# Altium integrated library Capacitor - Aluminium TH.IntLib: 4591 symbols (part 31 of 68)
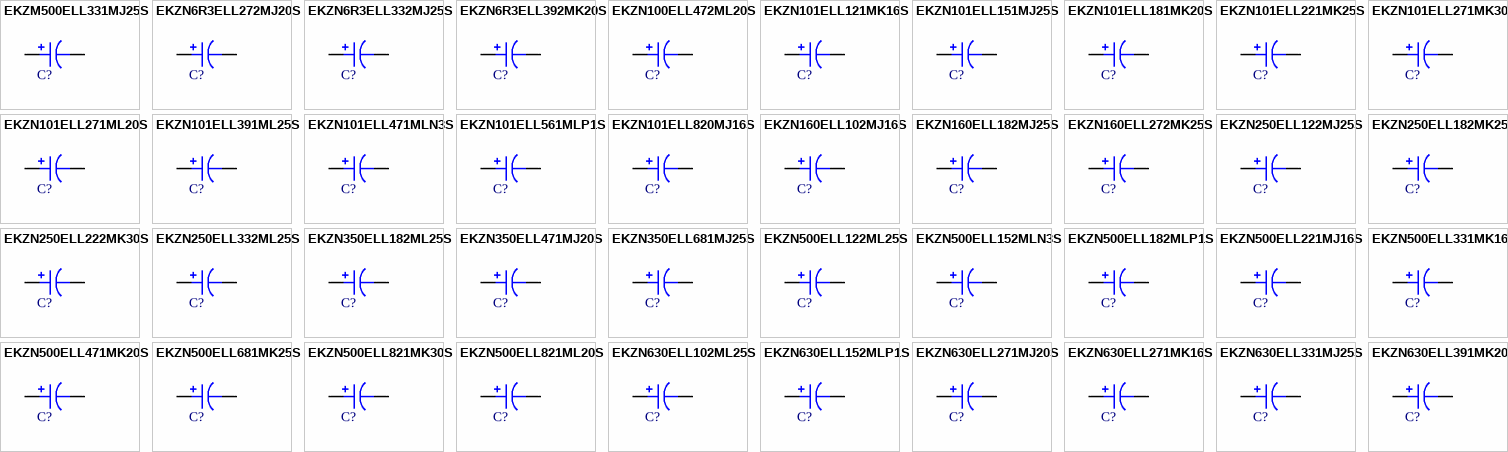
[diagram p144: symbols EKZM500ELL331MJ25S to EKZN630ELL391MK20S]

## EKZN160ELL272MK25S
designator C?, comment 2700uF  (value not drawn)
CAP ALUM 2700UF 20% 16V RADIAL; Part Number: EKZN160ELL272MK25S; Manufacturer: United Chemi-Con; TemperatureRange: -40C ~ 105C; Type: Polar; Ripple Current: 2.4A @ 120Hz; Impedance: 19 mOhm; Value: 2700uF; PartId: 23702; Supplier 1: Digi-Key; Supplier Part Number 1: 565-4049-ND; ComponentLink1Description: Datasheet; ComponentLink1URL: http://www.chemi-con.co.jp/cgi-bin/CAT_DB/SEARCH/cat_db_al.cgi?e=e&j=p&pdfname=kzn; ComponentLink2Description: Digi-Key Listing; ComponentLink2URL: https://www.digikey.com/product-detail/en/united-chemi-con/EKZN160ELL272MK25S/565-4049-ND/4843859; Tolerance: 20%; Voltage: 16V; Price: 1.09; Device Package: Radial, Can, 12.5mm
footprint CAP AL TH D12.5 L5 H26.5
pins: 1, 2

## EKZN250ELL122MJ25S
designator C?, comment 1200uF  (value not drawn)
CAP ALUM 1200UF 20% 25V RADIAL; Part Number: EKZN250ELL122MJ25S; Manufacturer: United Chemi-Con; TemperatureRange: -40C ~ 105C; Type: Polar; Ripple Current: 1.74A @ 120Hz; Impedance: 26 mOhm; Value: 1200uF; PartId: 26185; Supplier 1: Digi-Key; Supplier Part Number 1: 565-4053-ND; ComponentLink1Description: Datasheet; ComponentLink1URL: http://www.chemi-con.co.jp/cgi-bin/CAT_DB/SEARCH/cat_db_al.cgi?e=e&j=p&pdfname=kzn; ComponentLink2Description: Digi-Key Listing; ComponentLink2URL: https://www.digikey.com/product-detail/en/united-chemi-con/EKZN250ELL122MJ25S/565-4053-ND/4843863; Tolerance: 20%; Voltage: 25V; Price: 1.02; Device Package: Radial, Can, 10mm
footprint CAP AL TH D10 L5 H30
pins: 1, 2

## EKZN250ELL182MK25S
designator C?, comment 1800uF  (value not drawn)
CAP ALUM 1800UF 20% 25V RADIAL; Part Number: EKZN250ELL182MK25S; Manufacturer: United Chemi-Con; TemperatureRange: -40C ~ 105C; Type: Polar; Ripple Current: 1.92A @ 120Hz; Impedance: 19 mOhm; Value: 1800uF; PartId: 23719; Supplier 1: Digi-Key; Supplier Part Number 1: 565-4054-ND; ComponentLink1Description: Datasheet; ComponentLink1URL: http://www.chemi-con.co.jp/cgi-bin/CAT_DB/SEARCH/cat_db_al.cgi?e=e&j=p&pdfname=kzn; ComponentLink2Description: Digi-Key Listing; ComponentLink2URL: https://www.digikey.com/product-detail/en/united-chemi-con/EKZN250ELL182MK25S/565-4054-ND/4843864; Tolerance: 20%; Voltage: 25V; Price: 1.23; Device Package: Radial, Can, 12.5mm
footprint CAP AL TH D12.5 L5 H26.5
pins: 1, 2

## EKZN250ELL222MK30S
designator C?, comment 2200uF  (value not drawn)
CAP ALUM 2200UF 20% 25V RADIAL; Part Number: EKZN250ELL222MK30S; Manufacturer: United Chemi-Con; TemperatureRange: -40C ~ 105C; Type: Polar; Ripple Current: 2.745A @ 120Hz; Impedance: 18 mOhm; Value: 2200uF; PartId: 24358; Supplier 1: Digi-Key; Supplier Part Number 1: 565-4055-ND; ComponentLink1Description: Datasheet; ComponentLink1URL: http://www.chemi-con.co.jp/cgi-bin/CAT_DB/SEARCH/cat_db_al.cgi?e=e&j=p&pdfname=kzn; ComponentLink2Description: Digi-Key Listing; ComponentLink2URL: https://www.digikey.com/product-detail/en/united-chemi-con/EKZN250ELL222MK30S/565-4055-ND/4843865; Tolerance: 20%; Voltage: 25V; Price: 1.51; Device Package: Radial, Can, 12.5mm
footprint CAP AL TH D12.5 L5 H35.5
pins: 1, 2

## EKZN250ELL332ML25S
designator C?, comment 3300uF  (value not drawn)
CAP ALUM 3300UF 20% 25V RADIAL; Part Number: EKZN250ELL332ML25S; Manufacturer: United Chemi-Con; TemperatureRange: -40C ~ 105C; Type: Polar; Ripple Current: 2.8575A @ 120Hz; Impedance: 17 mOhm; Value: 3300uF; PartId: 26701; Supplier 1: Digi-Key; Supplier Part Number 1: 565-4056-ND; ComponentLink1Description: Datasheet; ComponentLink1URL: http://www.chemi-con.co.jp/cgi-bin/CAT_DB/SEARCH/cat_db_al.cgi?e=e&j=p&pdfname=kzn; ComponentLink2Description: Digi-Key Listing; ComponentLink2URL: https://www.digikey.com/product-detail/en/united-chemi-con/EKZN250ELL332ML25S/565-4056-ND/4843866; Tolerance: 20%; Voltage: 25V; Price: 1.97; Device Package: Radial, Can, 16mm
footprint CAP AL TH D16 L7.5 H26.5
pins: 1, 2

## EKZN350ELL182ML25S
designator C?, comment 1800uF  (value not drawn)
CAP ALUM 1800UF 20% 35V RADIAL; Part Number: EKZN350ELL182ML25S; Manufacturer: United Chemi-Con; TemperatureRange: -40C ~ 105C; Type: Polar; Ripple Current: 2.286A @ 120Hz; Impedance: 17 mOhm; Value: 1800uF; PartId: 26681; Supplier 1: Digi-Key; Supplier Part Number 1: 565-4062-ND; ComponentLink1Description: Datasheet; ComponentLink1URL: http://www.chemi-con.co.jp/cgi-bin/CAT_DB/SEARCH/cat_db_al.cgi?e=e&j=p&pdfname=kzn; ComponentLink2Description: Digi-Key Listing; ComponentLink2URL: https://www.digikey.com/product-detail/en/united-chemi-con/EKZN350ELL182ML25S/565-4062-ND/4843872; Tolerance: 20%; Voltage: 35V; Price: 1.79; Device Package: Radial, Can, 16mm
footprint CAP AL TH D16 L7.5 H26.5
pins: 1, 2

## EKZN350ELL471MJ20S
designator C?, comment 470uF  (value not drawn)
CAP ALUM 470UF 20% 35V RADIAL; Part Number: EKZN350ELL471MJ20S; Manufacturer: United Chemi-Con; TemperatureRange: -40C ~ 105C; Type: Polar; Ripple Current: 1.25A @ 120Hz; Impedance: 28 mOhm; Value: 470uF; PartId: 25647; Supplier 1: Digi-Key; Supplier Part Number 1: 565-4240-ND; ComponentLink1Description: Datasheet; ComponentLink1URL: http://www.chemi-con.co.jp/cgi-bin/CAT_DB/SEARCH/cat_db_al.cgi?e=e&j=p&pdfname=kzn; ComponentLink2Description: Digi-Key Listing; ComponentLink2URL: https://www.digikey.com/product-detail/en/united-chemi-con/EKZN350ELL471MJ20S/565-4240-ND/4847275; Tolerance: 20%; Voltage: 35V; Price: 0.74; Device Package: Radial, Can, 10mm
footprint CAP AL TH D10 L5 H22
pins: 1, 2

## EKZN350ELL681MJ25S
designator C?, comment 680uF  (value not drawn)
CAP ALUM 680UF 20% 35V RADIAL; Part Number: EKZN350ELL681MJ25S; Manufacturer: United Chemi-Con; TemperatureRange: -40C ~ 105C; Type: Polar; Ripple Current: 1.74A @ 120Hz; Impedance: 26 mOhm; Value: 680uF; PartId: 26111; Supplier 1: Digi-Key; Supplier Part Number 1: 565-4061-ND; ComponentLink1Description: Datasheet; ComponentLink1URL: http://www.chemi-con.co.jp/cgi-bin/CAT_DB/SEARCH/cat_db_al.cgi?e=e&j=p&pdfname=kzn; ComponentLink2Description: Digi-Key Listing; ComponentLink2URL: https://www.digikey.com/product-detail/en/united-chemi-con/EKZN350ELL681MJ25S/565-4061-ND/4843871; Tolerance: 20%; Voltage: 35V; Price: 0.77; Device Package: Radial, Can, 10mm
footprint CAP AL TH D10 L5 H30
pins: 1, 2

## EKZN500ELL122ML25S
designator C?, comment 1200uF  (value not drawn)
CAP ALUM 1200UF 20% 50V RADIAL; Part Number: EKZN500ELL122ML25S; Manufacturer: United Chemi-Con; TemperatureRange: -40C ~ 105C; Type: Polar; Ripple Current: 2.106A @ 120Hz; Impedance: 22 mOhm; Value: 1200uF; PartId: 26680; Supplier 1: Digi-Key; Supplier Part Number 1: 565-4075-ND; ComponentLink1Description: Datasheet; ComponentLink1URL: http://www.chemi-con.co.jp/cgi-bin/CAT_DB/SEARCH/cat_db_al.cgi?e=e&j=p&pdfname=kzn; ComponentLink2Description: Digi-Key Listing; ComponentLink2URL: https://www.digikey.com/product-detail/en/united-chemi-con/EKZN500ELL122ML25S/565-4075-ND/4843885; Tolerance: 20%; Voltage: 50V; Price: 1.79; Device Package: Radial, Can, 16mm
footprint CAP AL TH D16 L7.5 H26.5
pins: 1, 2

## EKZN500ELL152MLN3S
designator C?, comment 1500uF  (value not drawn)
CAP ALUM 1500UF 20% 50V RADIAL; Part Number: EKZN500ELL152MLN3S; Manufacturer: United Chemi-Con; TemperatureRange: -40C ~ 105C; Type: Polar; Ripple Current: 2.418A @ 120Hz; Impedance: 19 mOhm; Value: 1500uF; PartId: 27185; Supplier 1: Digi-Key; Supplier Part Number 1: 565-4076-ND; ComponentLink1Description: Datasheet; ComponentLink1URL: http://www.chemi-con.co.jp/cgi-bin/CAT_DB/SEARCH/cat_db_al.cgi?e=e&j=p&pdfname=kzn; ComponentLink2Description: Digi-Key Listing; ComponentLink2URL: https://www.digikey.com/product-detail/en/united-chemi-con/EKZN500ELL152MLN3S/565-4076-ND/4843886; Tolerance: 20%; Voltage: 50V; Price: 1.97; Device Package: Radial, Can, 16mm
footprint CAP AL TH D16 L7.5 H33.5
pins: 1, 2

## EKZN500ELL182MLP1S
designator C?, comment 1800uF  (value not drawn)
CAP ALUM 1800UF 20% 50V RADIAL; Part Number: EKZN500ELL182MLP1S; Manufacturer: United Chemi-Con; TemperatureRange: -40C ~ 105C; Type: Polar; Ripple Current: 2.532A @ 120Hz; Impedance: 16 mOhm; Value: 1800uF; PartId: 27404; Supplier 1: Digi-Key; Supplier Part Number 1: 565-4077-ND; ComponentLink1Description: Datasheet; ComponentLink1URL: http://www.chemi-con.co.jp/cgi-bin/CAT_DB/SEARCH/cat_db_al.cgi?e=e&j=p&pdfname=kzn; ComponentLink2Description: Digi-Key Listing; ComponentLink2URL: https://www.digikey.com/product-detail/en/united-chemi-con/EKZN500ELL182MLP1S/565-4077-ND/4843887; Tolerance: 20%; Voltage: 50V; Price: 2.21; Device Package: Radial, Can, 16mm
footprint CAP AL TH D16 L7.5 H37
pins: 1, 2

## EKZN500ELL221MJ16S
designator C?, comment 220uF  (value not drawn)
CAP ALUM 220UF 20% 50V RADIAL; Part Number: EKZN500ELL221MJ16S; Manufacturer: United Chemi-Con; TemperatureRange: -40C ~ 105C; Type: Polar; Ripple Current: 825mA @ 120Hz; Impedance: 53 mOhm; Value: 220uF; PartId: 25317; Supplier 1: Digi-Key; Supplier Part Number 1: 565-4067-ND; ComponentLink1Description: Datasheet; ComponentLink1URL: http://www.chemi-con.co.jp/cgi-bin/CAT_DB/SEARCH/cat_db_al.cgi?e=e&j=p&pdfname=kzn; ComponentLink2Description: Digi-Key Listing; ComponentLink2URL: https://www.digikey.com/product-detail/en/united-chemi-con/EKZN500ELL221MJ16S/565-4067-ND/4843877; Tolerance: 20%; Voltage: 50V; Price: 0.65; Device Package: Radial, Can, 10mm
footprint CAP AL TH D10 L5 H17.5
pins: 1, 2

## EKZN500ELL331MK16S
designator C?, comment 330uF  (value not drawn)
CAP ALUM 330UF 20% 50V RADIAL; Part Number: EKZN500ELL331MK16S; Manufacturer: United Chemi-Con; TemperatureRange: -40C ~ 105C; Type: Polar; Ripple Current: 1.08A @ 120Hz; Impedance: 45 mOhm; Value: 330uF; PartId: 22824; Supplier 1: Digi-Key; Supplier Part Number 1: 565-4068-ND; ComponentLink1Description: Datasheet; ComponentLink1URL: http://www.chemi-con.co.jp/cgi-bin/CAT_DB/SEARCH/cat_db_al.cgi?e=e&j=p&pdfname=kzn; ComponentLink2Description: Digi-Key Listing; ComponentLink2URL: https://www.digikey.com/product-detail/en/united-chemi-con/EKZN500ELL331MK16S/565-4068-ND/4843878; Tolerance: 20%; Voltage: 50V; Price: 0; Device Package: Radial, Can, 12.5mm
footprint CAP AL TH D12.5 L5 H17.5
pins: 1, 2

## EKZN500ELL471MK20S
designator C?, comment 470uF  (value not drawn)
CAP ALUM 470UF 20% 50V RADIAL; Part Number: EKZN500ELL471MK20S; Manufacturer: United Chemi-Con; TemperatureRange: -40C ~ 105C; Type: Polar; Ripple Current: 1.15A @ 120Hz; Impedance: 32 mOhm; Value: 470uF; PartId: 23017; Supplier 1: Digi-Key; Supplier Part Number 1: 565-4070-ND; ComponentLink1Description: Datasheet; ComponentLink1URL: http://www.chemi-con.co.jp/cgi-bin/CAT_DB/SEARCH/cat_db_al.cgi?e=e&j=p&pdfname=kzn; ComponentLink2Description: Digi-Key Listing; ComponentLink2URL: https://www.digikey.com/product-detail/en/united-chemi-con/EKZN500ELL471MK20S/565-4070-ND/4843880; Tolerance: 20%; Voltage: 50V; Price: 0; Device Package: Radial, Can, 12.5mm
footprint CAP AL TH D12.5 L5 H21.5
pins: 1, 2

## EKZN500ELL681MK25S
designator C?, comment 680uF  (value not drawn)
CAP ALUM 680UF 20% 50V RADIAL; Part Number: EKZN500ELL681MK25S; Manufacturer: United Chemi-Con; TemperatureRange: -40C ~ 105C; Type: Polar; Ripple Current: 1.68A @ 120Hz; Impedance: 25 mOhm; Value: 680uF; PartId: 23698; Supplier 1: Digi-Key; Supplier Part Number 1: 565-4071-ND; ComponentLink1Description: Datasheet; ComponentLink1URL: http://www.chemi-con.co.jp/cgi-bin/CAT_DB/SEARCH/cat_db_al.cgi?e=e&j=p&pdfname=kzn; ComponentLink2Description: Digi-Key Listing; ComponentLink2URL: https://www.digikey.com/product-detail/en/united-chemi-con/EKZN500ELL681MK25S/565-4071-ND/4843881; Tolerance: 20%; Voltage: 50V; Price: 1.09; Device Package: Radial, Can, 12.5mm
footprint CAP AL TH D12.5 L5 H26.5
pins: 1, 2

## EKZN500ELL821MK30S
designator C?, comment 820uF  (value not drawn)
CAP ALUM 820UF 20% 50V RADIAL; Part Number: EKZN500ELL821MK30S; Manufacturer: United Chemi-Con; TemperatureRange: -40C ~ 105C; Type: Polar; Ripple Current: 2.022A @ 120Hz; Impedance: 23 mOhm; Value: 820uF; PartId: 24310; Supplier 1: Digi-Key; Supplier Part Number 1: 565-4072-ND; ComponentLink1Description: Datasheet; ComponentLink1URL: http://www.chemi-con.co.jp/cgi-bin/CAT_DB/SEARCH/cat_db_al.cgi?e=e&j=p&pdfname=kzn; ComponentLink2Description: Digi-Key Listing; ComponentLink2URL: https://www.digikey.com/product-detail/en/united-chemi-con/EKZN500ELL821MK30S/565-4072-ND/4843882; Tolerance: 20%; Voltage: 50V; Price: 1.23; Device Package: Radial, Can, 12.5mm
footprint CAP AL TH D12.5 L5 H35.5
pins: 1, 2

## EKZN500ELL821ML20S
designator C?, comment 820uF  (value not drawn)
CAP ALUM 820UF 20% 50V RADIAL; Part Number: EKZN500ELL821ML20S; Manufacturer: United Chemi-Con; TemperatureRange: -40C ~ 105C; Type: Polar; Ripple Current: 1.842A @ 120Hz; Impedance: 26 mOhm; Value: 820uF; PartId: 26449; Supplier 1: Digi-Key; Supplier Part Number 1: 565-4073-ND; ComponentLink1Description: Datasheet; ComponentLink1URL: http://www.chemi-con.co.jp/cgi-bin/CAT_DB/SEARCH/cat_db_al.cgi?e=e&j=p&pdfname=kzn; ComponentLink2Description: Digi-Key Listing; ComponentLink2URL: https://www.digikey.com/product-detail/en/united-chemi-con/EKZN500ELL821ML20S/565-4073-ND/4843883; Tolerance: 20%; Voltage: 50V; Price: 1.49; Device Package: Radial, Can, 16mm
footprint CAP AL TH D16 L7.5 H22
pins: 1, 2

## EKZN630ELL102ML25S
designator C?, comment 1000uF  (value not drawn)
CAP ALUM 1000UF 20% 63V RADIAL; Part Number: EKZN630ELL102ML25S; Manufacturer: United Chemi-Con; TemperatureRange: -40C ~ 105C; Type: Polar; Ripple Current: 1.734A @ 120Hz; Impedance: 24 mOhm; Value: 1000uF; PartId: 26678; Supplier 1: Digi-Key; Supplier Part Number 1: 565-4098-ND; ComponentLink1Description: Datasheet; ComponentLink1URL: http://www.chemi-con.co.jp/cgi-bin/CAT_DB/SEARCH/cat_db_al.cgi?e=e&j=p&pdfname=kzn; ComponentLink2Description: Digi-Key Listing; ComponentLink2URL: https://www.digikey.com/product-detail/en/united-chemi-con/EKZN630ELL102ML25S/565-4098-ND/4843908; Tolerance: 20%; Voltage: 63V; Price: 1.79; Device Package: Radial, Can, 16mm
footprint CAP AL TH D16 L7.5 H26.5
pins: 1, 2

## EKZN630ELL152MLP1S
designator C?, comment 1500uF  (value not drawn)
CAP ALUM 1500UF 20% 63V RADIAL; Part Number: EKZN630ELL152MLP1S; Manufacturer: United Chemi-Con; TemperatureRange: -40C ~ 105C; Type: Polar; Ripple Current: 2.064A @ 120Hz; Impedance: 18 mOhm; Value: 1500uF; PartId: 27405; Supplier 1: Digi-Key; Supplier Part Number 1: 565-4101-ND; ComponentLink1Description: Datasheet; ComponentLink1URL: http://www.chemi-con.co.jp/cgi-bin/CAT_DB/SEARCH/cat_db_al.cgi?e=e&j=p&pdfname=kzn; ComponentLink2Description: Digi-Key Listing; ComponentLink2URL: https://www.digikey.com/product-detail/en/united-chemi-con/EKZN630ELL152MLP1S/565-4101-ND/4843911; Tolerance: 20%; Voltage: 63V; Price: 2.21; Device Package: Radial, Can, 16mm
footprint CAP AL TH D16 L7.5 H37
pins: 1, 2

## EKZN630ELL271MJ20S
designator C?, comment 270uF  (value not drawn)
CAP ALUM 270UF 20% 63V RADIAL; Part Number: EKZN630ELL271MJ20S; Manufacturer: United Chemi-Con; TemperatureRange: -40C ~ 105C; Type: Polar; Ripple Current: 785mA @ 120Hz; Impedance: 45 mOhm; Value: 270uF; PartId: 25652; Supplier 1: Digi-Key; Supplier Part Number 1: 565-4089-ND; ComponentLink1Description: Datasheet; ComponentLink1URL: http://www.chemi-con.co.jp/cgi-bin/CAT_DB/SEARCH/cat_db_al.cgi?e=e&j=p&pdfname=kzn; ComponentLink2Description: Digi-Key Listing; ComponentLink2URL: https://www.digikey.com/product-detail/en/united-chemi-con/EKZN630ELL271MJ20S/565-4089-ND/4843899; Tolerance: 20%; Voltage: 63V; Price: 0.74; Device Package: Radial, Can, 10mm
footprint CAP AL TH D10 L5 H22
pins: 1, 2

## EKZN630ELL271MK16S
designator C?, comment 270uF  (value not drawn)
CAP ALUM 270UF 20% 63V RADIAL; Part Number: EKZN630ELL271MK16S; Manufacturer: United Chemi-Con; TemperatureRange: -40C ~ 105C; Type: Polar; Ripple Current: 785mA @ 120Hz; Impedance: 58 mOhm; Value: 270uF; PartId: 22825; Supplier 1: Digi-Key; Supplier Part Number 1: 565-4090-ND; ComponentLink1Description: Datasheet; ComponentLink1URL: http://www.chemi-con.co.jp/cgi-bin/CAT_DB/SEARCH/cat_db_al.cgi?e=e&j=p&pdfname=kzn; ComponentLink2Description: Digi-Key Listing; ComponentLink2URL: https://www.digikey.com/product-detail/en/united-chemi-con/EKZN630ELL271MK16S/565-4090-ND/4843900; Tolerance: 20%; Voltage: 63V; Price: 0; Device Package: Radial, Can, 12.5mm
footprint CAP AL TH D12.5 L5 H17.5
pins: 1, 2

## EKZN630ELL331MJ25S
designator C?, comment 330uF  (value not drawn)
CAP ALUM 330UF 20% 63V RADIAL; Part Number: EKZN630ELL331MJ25S; Manufacturer: United Chemi-Con; TemperatureRange: -40C ~ 105C; Type: Polar; Ripple Current: 995mA @ 120Hz; Impedance: 37 mOhm; Value: 330uF; PartId: 26109; Supplier 1: Digi-Key; Supplier Part Number 1: 565-4091-ND; ComponentLink1Description: Datasheet; ComponentLink1URL: http://www.chemi-con.co.jp/cgi-bin/CAT_DB/SEARCH/cat_db_al.cgi?e=e&j=p&pdfname=kzn; ComponentLink2Description: Digi-Key Listing; ComponentLink2URL: https://www.digikey.com/product-detail/en/united-chemi-con/EKZN630ELL331MJ25S/565-4091-ND/4843901; Tolerance: 20%; Voltage: 63V; Price: 0.77; Device Package: Radial, Can, 10mm
footprint CAP AL TH D10 L5 H30
pins: 1, 2

## EKZN630ELL391MK20S
designator C?, comment 390uF  (value not drawn)
CAP ALUM 390UF 20% 63V RADIAL; Part Number: EKZN630ELL391MK20S; Manufacturer: United Chemi-Con; TemperatureRange: -40C ~ 105C; Type: Polar; Ripple Current: 995mA @ 120Hz; Impedance: 33 mOhm; Value: 390uF; PartId: 23013; Supplier 1: Digi-Key; Supplier Part Number 1: 565-4092-ND; ComponentLink1Description: Datasheet; ComponentLink1URL: http://www.chemi-con.co.jp/cgi-bin/CAT_DB/SEARCH/cat_db_al.cgi?e=e&j=p&pdfname=kzn; ComponentLink2Description: Digi-Key Listing; ComponentLink2URL: https://www.digikey.com/product-detail/en/united-chemi-con/EKZN630ELL391MK20S/565-4092-ND/4843902; Tolerance: 20%; Voltage: 63V; Price: 0; Device Package: Radial, Can, 12.5mm
footprint CAP AL TH D12.5 L5 H21.5
pins: 1, 2

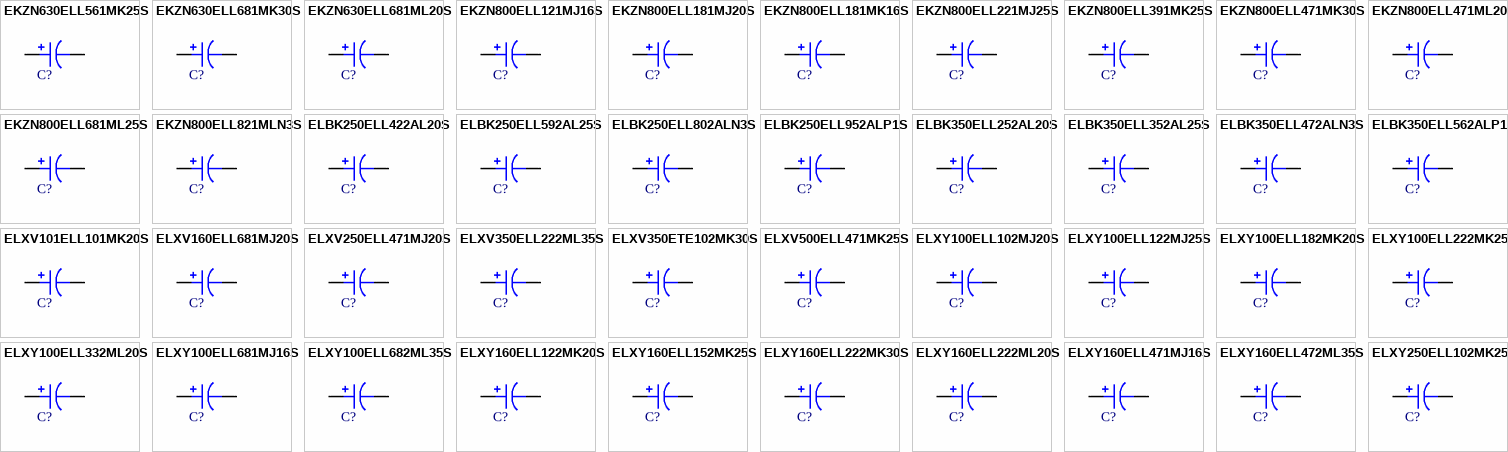
[diagram p50: symbols EKZN630ELL561MK25S to ELXY250ELL102MK25S]

## EKZN630ELL561MK25S
designator C?, comment 560uF  (value not drawn)
CAP ALUM 560UF 20% 63V RADIAL; Part Number: EKZN630ELL561MK25S; Manufacturer: United Chemi-Con; TemperatureRange: -40C ~ 105C; Type: Polar; Ripple Current: 1.23A @ 120Hz; Impedance: 26 mOhm; Value: 560uF; PartId: 23693; Supplier 1: Digi-Key; Supplier Part Number 1: 565-4093-ND; ComponentLink1Description: Datasheet; ComponentLink1URL: http://www.chemi-con.co.jp/cgi-bin/CAT_DB/SEARCH/cat_db_al.cgi?e=e&j=p&pdfname=kzn; ComponentLink2Description: Digi-Key Listing; ComponentLink2URL: https://www.digikey.com/product-detail/en/united-chemi-con/EKZN630ELL561MK25S/565-4093-ND/4843903; Tolerance: 20%; Voltage: 63V; Price: 1.06; Device Package: Radial, Can, 12.5mm
footprint CAP AL TH D12.5 L5 H26.5
pins: 1, 2

## EKZN630ELL681MK30S
designator C?, comment 680uF  (value not drawn)
CAP ALUM 680UF 20% 63V RADIAL; Part Number: EKZN630ELL681MK30S; Manufacturer: United Chemi-Con; TemperatureRange: -40C ~ 105C; Type: Polar; Ripple Current: 1.656A @ 120Hz; Impedance: 24 mOhm; Value: 680uF; PartId: 24307; Supplier 1: Digi-Key; Supplier Part Number 1: 565-4094-ND; ComponentLink1Description: Datasheet; ComponentLink1URL: http://www.chemi-con.co.jp/cgi-bin/CAT_DB/SEARCH/cat_db_al.cgi?e=e&j=p&pdfname=kzn; ComponentLink2Description: Digi-Key Listing; ComponentLink2URL: https://www.digikey.com/product-detail/en/united-chemi-con/EKZN630ELL681MK30S/565-4094-ND/4843904; Tolerance: 20%; Voltage: 63V; Price: 1.23; Device Package: Radial, Can, 12.5mm
footprint CAP AL TH D12.5 L5 H35.5
pins: 1, 2

## EKZN630ELL681ML20S
designator C?, comment 680uF  (value not drawn)
CAP ALUM 680UF 20% 63V RADIAL; Part Number: EKZN630ELL681ML20S; Manufacturer: United Chemi-Con; TemperatureRange: -40C ~ 105C; Type: Polar; Ripple Current: 1.428A @ 120Hz; Impedance: 27 mOhm; Value: 680uF; PartId: 26450; Supplier 1: Digi-Key; Supplier Part Number 1: 565-4095-ND; ComponentLink1Description: Datasheet; ComponentLink1URL: http://www.chemi-con.co.jp/cgi-bin/CAT_DB/SEARCH/cat_db_al.cgi?e=e&j=p&pdfname=kzn; ComponentLink2Description: Digi-Key Listing; ComponentLink2URL: https://www.digikey.com/product-detail/en/united-chemi-con/EKZN630ELL681ML20S/565-4095-ND/4843905; Tolerance: 20%; Voltage: 63V; Price: 1.49; Device Package: Radial, Can, 16mm
footprint CAP AL TH D16 L7.5 H22
pins: 1, 2

## EKZN800ELL121MJ16S
designator C?, comment 120uF  (value not drawn)
CAP ALUM 120UF 20% 80V RADIAL; Part Number: EKZN800ELL121MJ16S; Manufacturer: United Chemi-Con; TemperatureRange: -40C ~ 105C; Type: Polar; Ripple Current: 416mA @ 120Hz; Impedance: 90 mOhm; Value: 120uF; PartId: 25310; Supplier 1: Digi-Key; Supplier Part Number 1: 565-4112-ND; ComponentLink1Description: Datasheet; ComponentLink1URL: http://www.chemi-con.co.jp/cgi-bin/CAT_DB/SEARCH/cat_db_al.cgi?e=e&j=p&pdfname=kzn; ComponentLink2Description: Digi-Key Listing; ComponentLink2URL: https://www.digikey.com/product-detail/en/united-chemi-con/EKZN800ELL121MJ16S/565-4112-ND/4843922; Tolerance: 20%; Voltage: 80V; Price: 0.65; Device Package: Radial, Can, 10mm
footprint CAP AL TH D10 L5 H17.5
pins: 1, 2

## EKZN800ELL181MJ20S
designator C?, comment 180uF  (value not drawn)
CAP ALUM 180UF 20% 80V RADIAL; Part Number: EKZN800ELL181MJ20S; Manufacturer: United Chemi-Con; TemperatureRange: -40C ~ 105C; Type: Polar; Ripple Current: 572mA @ 120Hz; Impedance: 68 mOhm; Value: 180uF; PartId: 25654; Supplier 1: Digi-Key; Supplier Part Number 1: 565-4113-ND; ComponentLink1Description: Datasheet; ComponentLink1URL: http://www.chemi-con.co.jp/cgi-bin/CAT_DB/SEARCH/cat_db_al.cgi?e=e&j=p&pdfname=kzn; ComponentLink2Description: Digi-Key Listing; ComponentLink2URL: https://www.digikey.com/product-detail/en/united-chemi-con/EKZN800ELL181MJ20S/565-4113-ND/4843923; Tolerance: 20%; Voltage: 80V; Price: 0.74; Device Package: Radial, Can, 10mm
footprint CAP AL TH D10 L5 H22
pins: 1, 2

## EKZN800ELL181MK16S
designator C?, comment 180uF  (value not drawn)
CAP ALUM 180UF 20% 80V RADIAL; Part Number: EKZN800ELL181MK16S; Manufacturer: United Chemi-Con; TemperatureRange: -40C ~ 105C; Type: Polar; Ripple Current: 572mA @ 120Hz; Impedance: 90 mOhm; Value: 180uF; PartId: 22827; Supplier 1: Digi-Key; Supplier Part Number 1: 565-4114-ND; ComponentLink1Description: Datasheet; ComponentLink1URL: http://www.chemi-con.co.jp/cgi-bin/CAT_DB/SEARCH/cat_db_al.cgi?e=e&j=p&pdfname=kzn; ComponentLink2Description: Digi-Key Listing; ComponentLink2URL: https://www.digikey.com/product-detail/en/united-chemi-con/EKZN800ELL181MK16S/565-4114-ND/4843924; Tolerance: 20%; Voltage: 80V; Price: 0; Device Package: Radial, Can, 12.5mm
footprint CAP AL TH D12.5 L5 H17.5
pins: 1, 2

## EKZN800ELL221MJ25S
designator C?, comment 220uF  (value not drawn)
CAP ALUM 220UF 20% 80V RADIAL; Part Number: EKZN800ELL221MJ25S; Manufacturer: United Chemi-Con; TemperatureRange: -40C ~ 105C; Type: Polar; Ripple Current: 810mA @ 120Hz; Impedance: 55 mOhm; Value: 220uF; PartId: 26116; Supplier 1: Digi-Key; Supplier Part Number 1: 565-4115-ND; ComponentLink1Description: Datasheet; ComponentLink1URL: http://www.chemi-con.co.jp/cgi-bin/CAT_DB/SEARCH/cat_db_al.cgi?e=e&j=p&pdfname=kzn; ComponentLink2Description: Digi-Key Listing; ComponentLink2URL: https://www.digikey.com/product-detail/en/united-chemi-con/EKZN800ELL221MJ25S/565-4115-ND/4843925; Tolerance: 20%; Voltage: 80V; Price: 0.77; Device Package: Radial, Can, 10mm
footprint CAP AL TH D10 L5 H30
pins: 1, 2

## EKZN800ELL391MK25S
designator C?, comment 390uF  (value not drawn)
CAP ALUM 390UF 20% 80V RADIAL; Part Number: EKZN800ELL391MK25S; Manufacturer: United Chemi-Con; TemperatureRange: -40C ~ 105C; Type: Polar; Ripple Current: 1.105A @ 120Hz; Impedance: 38 mOhm; Value: 390uF; PartId: 23697; Supplier 1: Digi-Key; Supplier Part Number 1: 565-4117-ND; ComponentLink1Description: Datasheet; ComponentLink1URL: http://www.chemi-con.co.jp/cgi-bin/CAT_DB/SEARCH/cat_db_al.cgi?e=e&j=p&pdfname=kzn; ComponentLink2Description: Digi-Key Listing; ComponentLink2URL: https://www.digikey.com/product-detail/en/united-chemi-con/EKZN800ELL391MK25S/565-4117-ND/4843927; Tolerance: 20%; Voltage: 80V; Price: 1.09; Device Package: Radial, Can, 12.5mm
footprint CAP AL TH D12.5 L5 H26.5
pins: 1, 2

## EKZN800ELL471MK30S
designator C?, comment 470uF  (value not drawn)
CAP ALUM 470UF 20% 80V RADIAL; Part Number: EKZN800ELL471MK30S; Manufacturer: United Chemi-Con; TemperatureRange: -40C ~ 105C; Type: Polar; Ripple Current: 1.2A @ 120Hz; Impedance: 33 mOhm; Value: 470uF; PartId: 24308; Supplier 1: Digi-Key; Supplier Part Number 1: 565-4118-ND; ComponentLink1Description: Datasheet; ComponentLink1URL: http://www.chemi-con.co.jp/cgi-bin/CAT_DB/SEARCH/cat_db_al.cgi?e=e&j=p&pdfname=kzn; ComponentLink2Description: Digi-Key Listing; ComponentLink2URL: https://www.digikey.com/product-detail/en/united-chemi-con/EKZN800ELL471MK30S/565-4118-ND/4843928; Tolerance: 20%; Voltage: 80V; Price: 1.23; Device Package: Radial, Can, 12.5mm
footprint CAP AL TH D12.5 L5 H35.5
pins: 1, 2

## EKZN800ELL471ML20S
designator C?, comment 470uF  (value not drawn)
CAP ALUM 470UF 20% 80V RADIAL; Part Number: EKZN800ELL471ML20S; Manufacturer: United Chemi-Con; TemperatureRange: -40C ~ 105C; Type: Polar; Ripple Current: 975mA @ 120Hz; Impedance: 36 mOhm; Value: 470uF; PartId: 26454; Supplier 1: Digi-Key; Supplier Part Number 1: 565-4119-ND; ComponentLink1Description: Datasheet; ComponentLink1URL: http://www.chemi-con.co.jp/cgi-bin/CAT_DB/SEARCH/cat_db_al.cgi?e=e&j=p&pdfname=kzn; ComponentLink2Description: Digi-Key Listing; ComponentLink2URL: https://www.digikey.com/product-detail/en/united-chemi-con/EKZN800ELL471ML20S/565-4119-ND/4843929; Tolerance: 20%; Voltage: 80V; Price: 1.51; Device Package: Radial, Can, 16mm
footprint CAP AL TH D16 L7.5 H22
pins: 1, 2

## EKZN800ELL681ML25S
designator C?, comment 680uF  (value not drawn)
CAP ALUM 680UF 20% 80V RADIAL; Part Number: EKZN800ELL681ML25S; Manufacturer: United Chemi-Con; TemperatureRange: -40C ~ 105C; Type: Polar; Ripple Current: 1.458A @ 120Hz; Impedance: 28 mOhm; Value: 680uF; PartId: 26679; Supplier 1: Digi-Key; Supplier Part Number 1: 565-4121-ND; ComponentLink1Description: Datasheet; ComponentLink1URL: http://www.chemi-con.co.jp/cgi-bin/CAT_DB/SEARCH/cat_db_al.cgi?e=e&j=p&pdfname=kzn; ComponentLink2Description: Digi-Key Listing; ComponentLink2URL: https://www.digikey.com/product-detail/en/united-chemi-con/EKZN800ELL681ML25S/565-4121-ND/4843931; Tolerance: 20%; Voltage: 80V; Price: 1.79; Device Package: Radial, Can, 16mm
footprint CAP AL TH D16 L7.5 H26.5
pins: 1, 2

## EKZN800ELL821MLN3S
designator C?, comment 820uF  (value not drawn)
CAP ALUM 820UF 20% 80V RADIAL; Part Number: EKZN800ELL821MLN3S; Manufacturer: United Chemi-Con; TemperatureRange: -40C ~ 105C; Type: Polar; Ripple Current: 1.584A @ 120Hz; Impedance: 22 mOhm; Value: 820uF; PartId: 27183; Supplier 1: Digi-Key; Supplier Part Number 1: 565-4123-ND; ComponentLink1Description: Datasheet; ComponentLink1URL: http://www.chemi-con.co.jp/cgi-bin/CAT_DB/SEARCH/cat_db_al.cgi?e=e&j=p&pdfname=kzn; ComponentLink2Description: Digi-Key Listing; ComponentLink2URL: https://www.digikey.com/product-detail/en/united-chemi-con/EKZN800ELL821MLN3S/565-4123-ND/4843933; Tolerance: 20%; Voltage: 80V; Price: 1.97; Device Package: Radial, Can, 16mm
footprint CAP AL TH D16 L7.5 H33.5
pins: 1, 2

## ELBK250ELL422AL20S
designator C?, comment 4200uF  (value not drawn)
CAP POLY 4200UF 25V T/H; Part Number: ELBK250ELL422AL20S; Manufacturer: United Chemi-Con; TemperatureRange: -55C ~ 105C; Tolerance: 0%, +30%; Type: Polar; Ripple Current: 1.9125A @ 120Hz; Value: 4200uF; PartId: 26508; Supplier 1: Digi-Key; Supplier Part Number 1: 565-4337-ND; ComponentLink1Description: Datasheet; ComponentLink1URL: http://www.chemi-con.co.jp/cgi-bin/CAT_DB/SEARCH/cat_db_al.cgi?e=e&j=p&pdfname=lbk; ComponentLink2Description: Digi-Key Listing; ComponentLink2URL: https://www.digikey.com/product-detail/en/united-chemi-con/ELBK250ELL422AL20S/565-4337-ND/5824540; Voltage: 25V; Price: 2.84; Device Package: Radial, Can, 16mm
footprint CAP AL TH D16 L7.5 H22
pins: 1, 2

## ELBK250ELL592AL25S
designator C?, comment 5900uF  (value not drawn)
CAP POLY 5900UF 25V T/H; Part Number: ELBK250ELL592AL25S; Manufacturer: United Chemi-Con; TemperatureRange: -55C ~ 105C; Tolerance: 0%, +30%; Type: Polar; Ripple Current: 2.21A @ 120Hz; Value: 5900uF; PartId: 26976; Supplier 1: Digi-Key; Supplier Part Number 1: 565-4339-ND; ComponentLink1Description: Datasheet; ComponentLink1URL: http://www.chemi-con.co.jp/cgi-bin/CAT_DB/SEARCH/cat_db_al.cgi?e=e&j=p&pdfname=lbk; ComponentLink2Description: Digi-Key Listing; ComponentLink2URL: https://www.digikey.com/product-detail/en/united-chemi-con/ELBK250ELL592AL25S/565-4339-ND/5824542; Voltage: 25V; Price: 3.16; Device Package: Radial, Can, 16mm
footprint CAP AL TH D16 L7.5 H27
pins: 1, 2

## ELBK250ELL802ALN3S
designator C?, comment 8000uF  (value not drawn)
CAP POLY 8000UF 25V T/H; Part Number: ELBK250ELL802ALN3S; Manufacturer: United Chemi-Con; TemperatureRange: -55C ~ 105C; Tolerance: 0%, +30%; Type: Polar; Ripple Current: 2.72A @ 120Hz; Value: 8000uF; PartId: 27303; Supplier 1: Digi-Key; Supplier Part Number 1: 565-4341-ND; ComponentLink1Description: Datasheet; ComponentLink1URL: http://www.chemi-con.co.jp/cgi-bin/CAT_DB/SEARCH/cat_db_al.cgi?e=e&j=p&pdfname=lbk; ComponentLink2Description: Digi-Key Listing; ComponentLink2URL: https://www.digikey.com/product-detail/en/united-chemi-con/ELBK250ELL802ALN3S/565-4341-ND/5824544; Voltage: 25V; Price: 3.88; Device Package: Radial, Can, 16mm
footprint CAP AL TH D16 L7.5 H33.5
pins: 1, 2

## ELBK250ELL952ALP1S
designator C?, comment 9500uF  (value not drawn)
CAP POLY 9500UF 25V T/H; Part Number: ELBK250ELL952ALP1S; Manufacturer: United Chemi-Con; TemperatureRange: -55C ~ 105C; Tolerance: 0%, +30%; Type: Polar; Ripple Current: 2.975A @ 120Hz; Value: 9500uF; PartId: 27449; Supplier 1: Digi-Key; Supplier Part Number 1: 565-4342-ND; ComponentLink1Description: Datasheet; ComponentLink1URL: http://www.chemi-con.co.jp/cgi-bin/CAT_DB/SEARCH/cat_db_al.cgi?e=e&j=p&pdfname=lbk; ComponentLink2Description: Digi-Key Listing; ComponentLink2URL: https://www.digikey.com/product-detail/en/united-chemi-con/ELBK250ELL952ALP1S/565-4342-ND/5824545; Voltage: 25V; Price: 4.43; Device Package: Radial, Can, 16mm
footprint CAP AL TH D16 L7.5 H37
pins: 1, 2

## ELBK350ELL252AL20S
designator C?, comment 2500uF  (value not drawn)
CAP POLY 2500UF 35V T/H; Part Number: ELBK350ELL252AL20S; Manufacturer: United Chemi-Con; TemperatureRange: -55C ~ 105C; Tolerance: 0%, +30%; Type: Polar; Ripple Current: 1.6875A @ 120Hz; Value: 2500uF; PartId: 26509; Supplier 1: Digi-Key; Supplier Part Number 1: 565-4347-ND; ComponentLink1Description: Datasheet; ComponentLink1URL: http://www.chemi-con.co.jp/cgi-bin/CAT_DB/SEARCH/cat_db_al.cgi?e=e&j=p&pdfname=lbk; ComponentLink2Description: Digi-Key Listing; ComponentLink2URL: https://www.digikey.com/product-detail/en/united-chemi-con/ELBK350ELL252AL20S/565-4347-ND/5824550; Voltage: 35V; Price: 2.85; Device Package: Radial, Can, 16mm
footprint CAP AL TH D16 L7.5 H22
pins: 1, 2

## ELBK350ELL352AL25S
designator C?, comment 3500uF  (value not drawn)
CAP POLY 3500UF 35V T/H; Part Number: ELBK350ELL352AL25S; Manufacturer: United Chemi-Con; TemperatureRange: -55C ~ 105C; Tolerance: 0%, +30%; Type: Polar; Ripple Current: 1.95A @ 120Hz; Value: 3500uF; PartId: 26731; Supplier 1: Digi-Key; Supplier Part Number 1: 565-4349-ND; ComponentLink1Description: Datasheet; ComponentLink1URL: http://www.chemi-con.co.jp/cgi-bin/CAT_DB/SEARCH/cat_db_al.cgi?e=e&j=p&pdfname=lbk; ComponentLink2Description: Digi-Key Listing; ComponentLink2URL: https://www.digikey.com/product-detail/en/united-chemi-con/ELBK350ELL352AL25S/565-4349-ND/5824552; Voltage: 35V; Price: 3.22; Device Package: Radial, Can, 16mm
footprint CAP AL TH D16 L7.5 H26.5
pins: 1, 2

## ELBK350ELL472ALN3S
designator C?, comment 4700uF  (value not drawn)
CAP POLY 4700UF 35V T/H; Part Number: ELBK350ELL472ALN3S; Manufacturer: United Chemi-Con; TemperatureRange: -55C ~ 105C; Tolerance: 0%, +30%; Type: Polar; Ripple Current: 2.72A @ 120Hz; Value: 4700uF; PartId: 27306; Supplier 1: Digi-Key; Supplier Part Number 1: 565-4351-ND; ComponentLink1Description: Datasheet; ComponentLink1URL: http://www.chemi-con.co.jp/cgi-bin/CAT_DB/SEARCH/cat_db_al.cgi?e=e&j=p&pdfname=lbk; ComponentLink2Description: Digi-Key Listing; ComponentLink2URL: https://www.digikey.com/product-detail/en/united-chemi-con/ELBK350ELL472ALN3S/565-4351-ND/5824554; Voltage: 35V; Price: 3.97; Device Package: Radial, Can, 16mm
footprint CAP AL TH D16 L7.5 H33.5
pins: 1, 2

## ELBK350ELL562ALP1S
designator C?, comment 5600uF  (value not drawn)
CAP POLY 5600UF 35V T/H; Part Number: ELBK350ELL562ALP1S; Manufacturer: United Chemi-Con; TemperatureRange: -55C ~ 105C; Tolerance: 0%, +30%; Type: Polar; Ripple Current: 2.975A @ 120Hz; Value: 5600uF; PartId: 27451; Supplier 1: Digi-Key; Supplier Part Number 1: 565-4352-ND; ComponentLink1Description: Datasheet; ComponentLink1URL: http://www.chemi-con.co.jp/cgi-bin/CAT_DB/SEARCH/cat_db_al.cgi?e=e&j=p&pdfname=lbk; ComponentLink2Description: Digi-Key Listing; ComponentLink2URL: https://www.digikey.com/product-detail/en/united-chemi-con/ELBK350ELL562ALP1S/565-4352-ND/5824555; Voltage: 35V; Price: 4.46; Device Package: Radial, Can, 16mm
footprint CAP AL TH D16 L7.5 H37
pins: 1, 2

## ELXV101ELL101MK20S
designator C?, comment 100uF  (value not drawn)
CAP ALUM 100UF 20% 100V RADIAL; Part Number: ELXV101ELL101MK20S; Manufacturer: United Chemi-Con; TemperatureRange: -55C ~ 105C; Type: Polar; Ripple Current: 311.5mA @ 120Hz; Impedance: 150 mOhm; Value: 100uF; PartId: 22959; Supplier 1: Digi-Key; Supplier Part Number 1: 565-4244-ND; ComponentLink1Description: Datasheet; ComponentLink1URL: http://www.chemi-con.co.jp/cgi-bin/CAT_DB/SEARCH/cat_db_al.cgi?e=e&j=p&pdfname=lxv; ComponentLink2Description: Digi-Key Listing; ComponentLink2URL: https://www.digikey.com/product-detail/en/united-chemi-con/ELXV101ELL101MK20S/565-4244-ND/4001739; Tolerance: 20%; Voltage: 100V; Price: 0; Device Package: Radial, Can, 12.5mm
footprint CAP AL TH D12.5 L5 H21.5
pins: 1, 2

## ELXV160ELL681MJ20S
designator C?, comment 680uF  (value not drawn)
CAP ALUM 680UF 20% 16V RADIAL; Part Number: ELXV160ELL681MJ20S; Manufacturer: United Chemi-Con; TemperatureRange: -55C ~ 105C; Type: Polar; Ripple Current: 689mA @ 120Hz; Impedance: 62 mOhm; Value: 680uF; PartId: 25532; Supplier 1: Digi-Key; Supplier Part Number 1: 565-3357-ND; ComponentLink1Description: Datasheet; ComponentLink1URL: http://www.chemi-con.co.jp/cgi-bin/CAT_DB/SEARCH/cat_db_al.cgi?e=e&j=p&pdfname=lxv; ComponentLink2Description: Digi-Key Listing; ComponentLink2URL: https://www.digikey.com/product-detail/en/united-chemi-con/ELXV160ELL681MJ20S/565-3357-ND/3504624; Tolerance: 20%; Voltage: 16V; Price: 0.61; Device Package: Radial, Can, 10mm
footprint CAP AL TH D10 L5 H22
pins: 1, 2

## ELXV250ELL471MJ20S
designator C?, comment 470uF  (value not drawn)
CAP ALUM 470UF 20% 25V RADIAL; Part Number: ELXV250ELL471MJ20S; Manufacturer: United Chemi-Con; TemperatureRange: -55C ~ 105C; Type: Polar; Ripple Current: 689mA @ 120Hz; Impedance: 62 mOhm; Value: 470uF; PartId: 25529; Supplier 1: Digi-Key; Supplier Part Number 1: 565-3358-ND; ComponentLink1Description: Datasheet; ComponentLink1URL: http://www.chemi-con.co.jp/cgi-bin/CAT_DB/SEARCH/cat_db_al.cgi?e=e&j=p&pdfname=lxv; ComponentLink2Description: Digi-Key Listing; ComponentLink2URL: https://www.digikey.com/product-detail/en/united-chemi-con/ELXV250ELL471MJ20S/565-3358-ND/3504627; Tolerance: 20%; Voltage: 25V; Price: 0.6; Device Package: Radial, Can, 10mm
footprint CAP AL TH D10 L5 H22
pins: 1, 2

## ELXV350ELL222ML35S
designator C?, comment 2200uF  (value not drawn)
CAP ALUM 2200UF 20% 35V RADIAL; Part Number: ELXV350ELL222ML35S; Manufacturer: United Chemi-Con; TemperatureRange: -55C ~ 105C; Type: Polar; Ripple Current: 1.662A @ 120Hz; Impedance: 22 mOhm; Value: 2200uF; PartId: 27329; Supplier 1: Digi-Key; Supplier Part Number 1: 565-3756-ND; ComponentLink1Description: Datasheet; ComponentLink1URL: http://www.chemi-con.co.jp/cgi-bin/CAT_DB/SEARCH/cat_db_al.cgi?e=e&j=p&pdfname=lxv; ComponentLink2Description: Digi-Key Listing; ComponentLink2URL: https://www.digikey.com/product-detail/en/united-chemi-con/ELXV350ELL222ML35S/565-3756-ND/4001864; Tolerance: 20%; Voltage: 35V; Price: 1.58; Device Package: Radial, Can, 16mm
footprint CAP AL TH D16 L7.5 H37
pins: 1, 2

## ELXV350ETE102MK30S
designator C?, comment 1000uF  (value not drawn)
CAP ALUM 1000UF 20% 35V RADIAL; Part Number: ELXV350ETE102MK30S; Manufacturer: United Chemi-Con; TemperatureRange: -55C ~ 105C; Type: Polar; Ripple Current: 990mA @ 120Hz; Impedance: 30 mOhm; Value: 1000uF; PartId: 24230; Supplier 1: Digi-Key; Supplier Part Number 1: 565-3348-1-ND; ComponentLink1Description: Datasheet; ComponentLink1URL: http://www.chemi-con.co.jp/cgi-bin/CAT_DB/SEARCH/cat_db_al.cgi?e=e&j=p&pdfname=lxv; ComponentLink2Description: Digi-Key Listing; ComponentLink2URL: https://www.digikey.com/product-detail/en/united-chemi-con/ELXV350ETE102MK30S/565-3348-1-ND/3504611; Tolerance: 20%; Voltage: 35V; Price: 0.97; Device Package: Radial, Can, 12.5mm
footprint CAP AL TH D12.5 L5 H35.5
pins: 1, 2

## ELXV500ELL471MK25S
designator C?, comment 470uF  (value not drawn)
CAP ALUM 470UF 20% 50V RADIAL; Part Number: ELXV500ELL471MK25S; Manufacturer: United Chemi-Con; TemperatureRange: -55C ~ 105C; Type: Polar; Ripple Current: 750mA @ 120Hz; Impedance: 45 mOhm; Value: 470uF; PartId: 23654; Supplier 1: Digi-Key; Supplier Part Number 1: 565-3758-ND; ComponentLink1Description: Datasheet; ComponentLink1URL: http://www.chemi-con.co.jp/cgi-bin/CAT_DB/SEARCH/cat_db_al.cgi?e=e&j=p&pdfname=lxv; ComponentLink2Description: Digi-Key Listing; ComponentLink2URL: https://www.digikey.com/product-detail/en/united-chemi-con/ELXV500ELL471MK25S/565-3758-ND/4001910; Tolerance: 20%; Voltage: 50V; Price: 0.86; Device Package: Radial, Can, 12.5mm
footprint CAP AL TH D12.5 L5 H26.5
pins: 1, 2

## ELXY100ELL102MJ20S
designator C?, comment 1000uF  (value not drawn)
CAP ALUM 1000UF 20% 10V RADIAL; Part Number: ELXY100ELL102MJ20S; Manufacturer: United Chemi-Con; TemperatureRange: -55C ~ 105C; Type: Polar; Ripple Current: 624mA @ 120Hz; Impedance: 62 mOhm; Value: 1000uF; PartId: 25604; Supplier 1: Digi-Key; Supplier Part Number 1: 565-1755-ND; ComponentLink1Description: Datasheet; ComponentLink1URL: http://www.chemi-con.co.jp/cgi-bin/CAT_DB/SEARCH/cat_db_al.cgi?e=e&j=p&pdfname=lxy; ComponentLink2Description: Digi-Key Listing; ComponentLink2URL: https://www.digikey.com/product-detail/en/united-chemi-con/ELXY100ELL102MJ20S/565-1755-ND/756271; Tolerance: 20%; Voltage: 10V; Price: 0.69; Device Package: Radial, Can, 10mm
footprint CAP AL TH D10 L5 H22
pins: 1, 2

## ELXY100ELL122MJ25S
designator C?, comment 1200uF  (value not drawn)
CAP ALUM 1200UF 20% 10V RADIAL; Part Number: ELXY100ELL122MJ25S; Manufacturer: United Chemi-Con; TemperatureRange: -55C ~ 105C; Type: Polar; Ripple Current: 756mA @ 120Hz; Impedance: 52 mOhm; Value: 1200uF; PartId: 26068; Supplier 1: Digi-Key; Supplier Part Number 1: 565-1756-ND; ComponentLink1Description: Datasheet; ComponentLink1URL: http://www.chemi-con.co.jp/cgi-bin/CAT_DB/SEARCH/cat_db_al.cgi?e=e&j=p&pdfname=lxy; ComponentLink2Description: Digi-Key Listing; ComponentLink2URL: https://www.digikey.com/product-detail/en/united-chemi-con/ELXY100ELL122MJ25S/565-1756-ND/756272; Tolerance: 20%; Voltage: 10V; Price: 0.69; Device Package: Radial, Can, 10mm
footprint CAP AL TH D10 L5 H30
pins: 1, 2

## ELXY100ELL182MK20S
designator C?, comment 1800uF  (value not drawn)
CAP ALUM 1800UF 20% 10V RADIAL; Part Number: ELXY100ELL182MK20S; Manufacturer: United Chemi-Con; TemperatureRange: -55C ~ 105C; Type: Polar; Ripple Current: 804mA @ 120Hz; Impedance: 46 mOhm; Value: 1800uF; PartId: 22980; Supplier 1: Digi-Key; Supplier Part Number 1: 565-1758-ND; ComponentLink1Description: Datasheet; ComponentLink1URL: http://www.chemi-con.co.jp/cgi-bin/CAT_DB/SEARCH/cat_db_al.cgi?e=e&j=p&pdfname=lxy; ComponentLink2Description: Digi-Key Listing; ComponentLink2URL: https://www.digikey.com/product-detail/en/united-chemi-con/ELXY100ELL182MK20S/565-1758-ND/756274; Tolerance: 20%; Voltage: 10V; Price: 0; Device Package: Radial, Can, 12.5mm
footprint CAP AL TH D12.5 L5 H21.5
pins: 1, 2

## ELXY100ELL222MK25S
designator C?, comment 2200uF  (value not drawn)
CAP ALUM 2200UF 20% 10V RADIAL; Part Number: ELXY100ELL222MK25S; Manufacturer: United Chemi-Con; TemperatureRange: -55C ~ 105C; Type: Polar; Ripple Current: 1.2675A @ 120Hz; Impedance: 34 mOhm; Value: 2200uF; PartId: 23686; Supplier 1: Digi-Key; Supplier Part Number 1: 565-1759-ND; ComponentLink1Description: Datasheet; ComponentLink1URL: http://www.chemi-con.co.jp/cgi-bin/CAT_DB/SEARCH/cat_db_al.cgi?e=e&j=p&pdfname=lxy; ComponentLink2Description: Digi-Key Listing; ComponentLink2URL: https://www.digikey.com/product-detail/en/united-chemi-con/ELXY100ELL222MK25S/565-1759-ND/756275; Tolerance: 20%; Voltage: 10V; Price: 1.04; Device Package: Radial, Can, 12.5mm
footprint CAP AL TH D12.5 L5 H26.5
pins: 1, 2

## ELXY100ELL332ML20S
designator C?, comment 3300uF  (value not drawn)
CAP ALUM 3300UF 20% 10V RADIAL; Part Number: ELXY100ELL332ML20S; Manufacturer: United Chemi-Con; TemperatureRange: -55C ~ 105C; Type: Polar; Ripple Current: 1.2225A @ 120Hz; Impedance: 38 mOhm; Value: 3300uF; PartId: 26316; Supplier 1: Digi-Key; Supplier Part Number 1: 565-1762-ND; ComponentLink1Description: Datasheet; ComponentLink1URL: http://www.chemi-con.co.jp/cgi-bin/CAT_DB/SEARCH/cat_db_al.cgi?e=e&j=p&pdfname=lxy; ComponentLink2Description: Digi-Key Listing; ComponentLink2URL: https://www.digikey.com/product-detail/en/united-chemi-con/ELXY100ELL332ML20S/565-1762-ND/756278; Tolerance: 20%; Voltage: 10V; Price: 1.26; Device Package: Radial, Can, 16mm
footprint CAP AL TH D16 L7.5 H20
pins: 1, 2

## ELXY100ELL681MJ16S
designator C?, comment 680uF  (value not drawn)
CAP ALUM 680UF 20% 10V RADIAL; Part Number: ELXY100ELL681MJ16S; Manufacturer: United Chemi-Con; TemperatureRange: -55C ~ 105C; Type: Polar; Ripple Current: 495mA @ 120Hz; Impedance: 84 mOhm; Value: 680uF; PartId: 25267; Supplier 1: Digi-Key; Supplier Part Number 1: 565-1753-ND; ComponentLink1Description: Datasheet; ComponentLink1URL: http://www.chemi-con.co.jp/cgi-bin/CAT_DB/SEARCH/cat_db_al.cgi?e=e&j=p&pdfname=lxy; ComponentLink2Description: Digi-Key Listing; ComponentLink2URL: https://www.digikey.com/product-detail/en/united-chemi-con/ELXY100ELL681MJ16S/565-1753-ND/756269; Tolerance: 20%; Voltage: 10V; Price: 0.6; Device Package: Radial, Can, 10mm
footprint CAP AL TH D10 L5 H17.5
pins: 1, 2

## ELXY100ELL682ML35S
designator C?, comment 6800uF  (value not drawn)
CAP ALUM 6800UF 20% 10V RADIAL; Part Number: ELXY100ELL682ML35S; Manufacturer: United Chemi-Con; TemperatureRange: -55C ~ 105C; Type: Polar; Ripple Current: 2.1675A @ 120Hz; Impedance: 22 mOhm; Value: 6800uF; PartId: 27353; Supplier 1: Digi-Key; Supplier Part Number 1: 565-1766-ND; ComponentLink1Description: Datasheet; ComponentLink1URL: http://www.chemi-con.co.jp/cgi-bin/CAT_DB/SEARCH/cat_db_al.cgi?e=e&j=p&pdfname=lxy; ComponentLink2Description: Digi-Key Listing; ComponentLink2URL: https://www.digikey.com/product-detail/en/united-chemi-con/ELXY100ELL682ML35S/565-1766-ND/756282; Tolerance: 20%; Voltage: 10V; Price: 1.76; Device Package: Radial, Can, 16mm
footprint CAP AL TH D16 L7.5 H37
pins: 1, 2

## ELXY160ELL122MK20S
designator C?, comment 1200uF  (value not drawn)
CAP ALUM 1200UF 20% 16V RADIAL; Part Number: ELXY160ELL122MK20S; Manufacturer: United Chemi-Con; TemperatureRange: -55C ~ 105C; Type: Polar; Ripple Current: 804mA @ 120Hz; Impedance: 46 mOhm; Value: 1200uF; PartId: 22981; Supplier 1: Digi-Key; Supplier Part Number 1: 565-1779-ND; ComponentLink1Description: Datasheet; ComponentLink1URL: http://www.chemi-con.co.jp/cgi-bin/CAT_DB/SEARCH/cat_db_al.cgi?e=e&j=p&pdfname=lxy; ComponentLink2Description: Digi-Key Listing; ComponentLink2URL: https://www.digikey.com/product-detail/en/united-chemi-con/ELXY160ELL122MK20S/565-1779-ND/756295; Tolerance: 20%; Voltage: 16V; Price: 0; Device Package: Radial, Can, 12.5mm
footprint CAP AL TH D12.5 L5 H21.5
pins: 1, 2

## ELXY160ELL152MK25S
designator C?, comment 1500uF  (value not drawn)
CAP ALUM 1500UF 20% 16V RADIAL; Part Number: ELXY160ELL152MK25S; Manufacturer: United Chemi-Con; TemperatureRange: -55C ~ 105C; Type: Polar; Ripple Current: 1.014A @ 120Hz; Impedance: 34 mOhm; Value: 1500uF; PartId: 23689; Supplier 1: Digi-Key; Supplier Part Number 1: 565-1780-ND; ComponentLink1Description: Datasheet; ComponentLink1URL: http://www.chemi-con.co.jp/cgi-bin/CAT_DB/SEARCH/cat_db_al.cgi?e=e&j=p&pdfname=lxy; ComponentLink2Description: Digi-Key Listing; ComponentLink2URL: https://www.digikey.com/product-detail/en/united-chemi-con/ELXY160ELL152MK25S/565-1780-ND/756296; Tolerance: 20%; Voltage: 16V; Price: 1.04; Device Package: Radial, Can, 12.5mm
footprint CAP AL TH D12.5 L5 H26.5
pins: 1, 2

## ELXY160ELL222MK30S
designator C?, comment 2200uF  (value not drawn)
CAP ALUM 2200UF 20% 16V RADIAL; Part Number: ELXY160ELL222MK30S; Manufacturer: United Chemi-Con; TemperatureRange: -55C ~ 105C; Type: Polar; Ripple Current: 1.4625A @ 120Hz; Impedance: 30 mOhm; Value: 2200uF; PartId: 24252; Supplier 1: Digi-Key; Supplier Part Number 1: 565-1781-ND; ComponentLink1Description: Datasheet; ComponentLink1URL: http://www.chemi-con.co.jp/cgi-bin/CAT_DB/SEARCH/cat_db_al.cgi?e=e&j=p&pdfname=lxy; ComponentLink2Description: Digi-Key Listing; ComponentLink2URL: https://www.digikey.com/product-detail/en/united-chemi-con/ELXY160ELL222MK30S/565-1781-ND/756297; Tolerance: 20%; Voltage: 16V; Price: 1.03; Device Package: Radial, Can, 12.5mm
footprint CAP AL TH D12.5 L5 H35.5
pins: 1, 2

## ELXY160ELL222ML20S
designator C?, comment 2200uF  (value not drawn)
CAP ALUM 2200UF 20% 16V RADIAL; Part Number: ELXY160ELL222ML20S; Manufacturer: United Chemi-Con; TemperatureRange: -55C ~ 105C; Type: Polar; Ripple Current: 1.2225A @ 120Hz; Impedance: 38 mOhm; Value: 2200uF; PartId: 26312; Supplier 1: Digi-Key; Supplier Part Number 1: 565-1782-ND; ComponentLink1Description: Datasheet; ComponentLink1URL: http://www.chemi-con.co.jp/cgi-bin/CAT_DB/SEARCH/cat_db_al.cgi?e=e&j=p&pdfname=lxy; ComponentLink2Description: Digi-Key Listing; ComponentLink2URL: https://www.digikey.com/product-detail/en/united-chemi-con/ELXY160ELL222ML20S/565-1782-ND/756298; Tolerance: 20%; Voltage: 16V; Price: 1.2; Device Package: Radial, Can, 16mm
footprint CAP AL TH D16 L7.5 H20
pins: 1, 2

## ELXY160ELL471MJ16S
designator C?, comment 470uF  (value not drawn)
CAP ALUM 470UF 20% 16V RADIAL; Part Number: ELXY160ELL471MJ16S; Manufacturer: United Chemi-Con; TemperatureRange: -55C ~ 105C; Type: Polar; Ripple Current: 412.5mA @ 120Hz; Impedance: 84 mOhm; Value: 470uF; PartId: 25274; Supplier 1: Digi-Key; Supplier Part Number 1: 565-1774-ND; ComponentLink1Description: Datasheet; ComponentLink1URL: http://www.chemi-con.co.jp/cgi-bin/CAT_DB/SEARCH/cat_db_al.cgi?e=e&j=p&pdfname=lxy; ComponentLink2Description: Digi-Key Listing; ComponentLink2URL: https://www.digikey.com/product-detail/en/united-chemi-con/ELXY160ELL471MJ16S/565-1774-ND/756290; Tolerance: 20%; Voltage: 16V; Price: 0.61; Device Package: Radial, Can, 10mm
footprint CAP AL TH D10 L5 H17.5
pins: 1, 2

## ELXY160ELL472ML35S
designator C?, comment 4700uF  (value not drawn)
CAP ALUM 4700UF 20% 16V RADIAL; Part Number: ELXY160ELL472ML35S; Manufacturer: United Chemi-Con; TemperatureRange: -55C ~ 105C; Type: Polar; Ripple Current: 2.1675A @ 120Hz; Impedance: 22 mOhm; Value: 4700uF; PartId: 27332; Supplier 1: Digi-Key; Supplier Part Number 1: 565-1787-ND; ComponentLink1Description: Datasheet; ComponentLink1URL: http://www.chemi-con.co.jp/cgi-bin/CAT_DB/SEARCH/cat_db_al.cgi?e=e&j=p&pdfname=lxy; ComponentLink2Description: Digi-Key Listing; ComponentLink2URL: https://www.digikey.com/product-detail/en/united-chemi-con/ELXY160ELL472ML35S/565-1787-ND/756303; Tolerance: 20%; Voltage: 16V; Price: 1.62; Device Package: Radial, Can, 16mm
footprint CAP AL TH D16 L7.5 H37
pins: 1, 2

## ELXY250ELL102MK25S
designator C?, comment 1000uF  (value not drawn)
CAP ALUM 1000UF 20% 25V RADIAL; Part Number: ELXY250ELL102MK25S; Manufacturer: United Chemi-Con; TemperatureRange: -55C ~ 105C; Type: Polar; Ripple Current: 1.014A @ 120Hz; Impedance: 34 mOhm; Value: 1000uF; PartId: 23681; Supplier 1: Digi-Key; Supplier Part Number 1: 565-1801-ND; ComponentLink1Description: Datasheet; ComponentLink1URL: http://www.chemi-con.co.jp/cgi-bin/CAT_DB/SEARCH/cat_db_al.cgi?e=e&j=p&pdfname=lxy; ComponentLink2Description: Digi-Key Listing; ComponentLink2URL: https://www.digikey.com/product-detail/en/united-chemi-con/ELXY250ELL102MK25S/565-1801-ND/756317; Tolerance: 20%; Voltage: 25V; Price: 1.02; Device Package: Radial, Can, 12.5mm
footprint CAP AL TH D12.5 L5 H26.5
pins: 1, 2

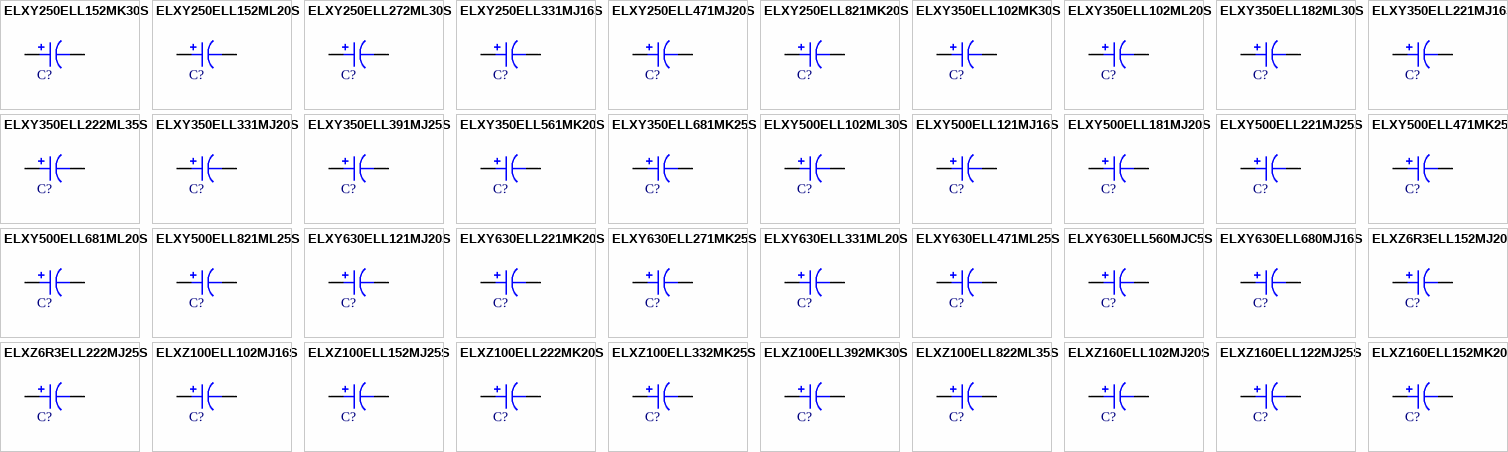
[diagram p51: symbols ELXY250ELL152MK30S to ELXZ160ELL152MK20S]

## ELXY250ELL152MK30S
designator C?, comment 1500uF  (value not drawn)
CAP ALUM 1500UF 20% 25V RADIAL; Part Number: ELXY250ELL152MK30S; Manufacturer: United Chemi-Con; TemperatureRange: -55C ~ 105C; Type: Polar; Ripple Current: 1.17A @ 120Hz; Impedance: 30 mOhm; Value: 1500uF; PartId: 24251; Supplier 1: Digi-Key; Supplier Part Number 1: 565-1802-ND; ComponentLink1Description: Datasheet; ComponentLink1URL: http://www.chemi-con.co.jp/cgi-bin/CAT_DB/SEARCH/cat_db_al.cgi?e=e&j=p&pdfname=lxy; ComponentLink2Description: Digi-Key Listing; ComponentLink2URL: https://www.digikey.com/product-detail/en/united-chemi-con/ELXY250ELL152MK30S/565-1802-ND/756318; Tolerance: 20%; Voltage: 25V; Price: 1.03; Device Package: Radial, Can, 12.5mm
footprint CAP AL TH D12.5 L5 H35.5
pins: 1, 2